# Altium footprint library BUSMATIC.PcbLib: 1 footprints
Each footprint in its own frame and in the unit in brackets; x right, y up, seen from the top. Pads: shape width x height; smd on the part's side, far side on the other; paste and mask are expansions set on the pad; w line width, h text height; cw(c..) or ccw(c..) is an arc to the next point about the centre after c.
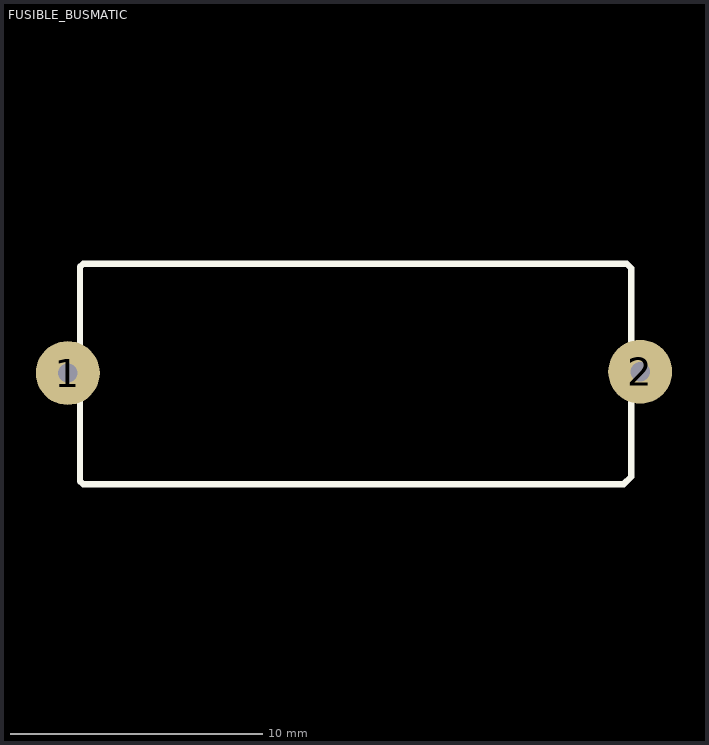
[diagram p0: the footprint, top view; thin cyan lines are the x and y axes]

## FUSIBLE_BUSMATIC [mil]
pads (2):
  round 100 hole 30: 1(-49859,-49694) 2(-48964,-49692)
Top Overlay:
  lines w10: -49840,-49863 -49835,-49868 -48990,-49868 -48978,-49856 -48978,-49530 -48985,-49523 -49835,-49523 -49840,-49528 -49840,-49863